# Altium schematic symbol library MyLibrary.SchLib: 1 symbol
Pins are listed as number, name and electrical type; pins without a type are passive.

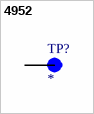
[diagram p0: symbol 4952]

## 4952
designator TP?
MP: 4952; Price: None; Availability: Unavailable; Package: None; Value: *
footprint KEYSTONE_4952
pins: TP